# EAGLE library part PCM1800E (library DAC714p)
Single-Ended Analog Input 20-Bit Stereo ADC
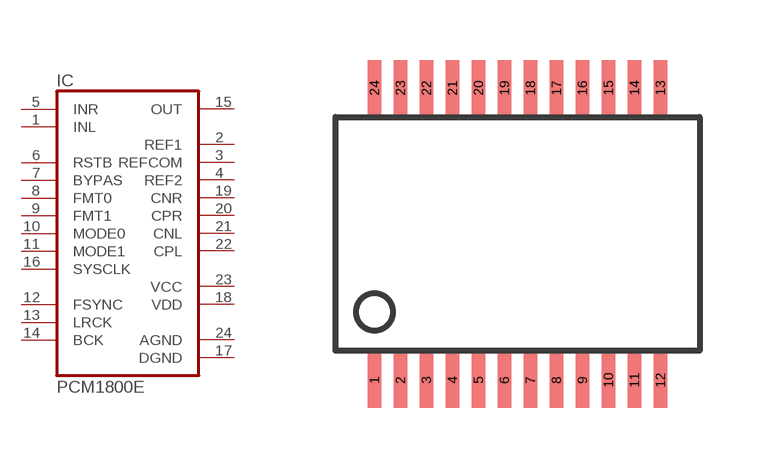
[diagram p107: symbol with the pads of SSOP24BU; footprint SSOP24BU]

Designator prefix IC

## PCM1800E (MF: TEXAS INSTRUMENTS; MPN: PCM1800E; OC_FARNELL: 1648631; OC_NEWARK: 34K8598)  [SSOP24BU]
1  INL  in
2  REF1  pas
3  REFCOM  pas
4  REF2  pas
5  INR  in
6  RSTB  in
7  BYPAS  in
8  FMT0  in
9  FMT1  in
10  MODE0  in
11  MODE1  in
12  FSYNC
13  LRCK
14  BCK
15  OUT  out
16  SYSCLK  in
17  DGND  pwr
18  VDD  pwr
19  CNR  pas
20  CPR  pas
21  CNL  pas
22  CPL  pas
23  VCC  pwr
24  AGND  pwr

## Footprint SSOP24BU (pad centres in mm)
Small Shrink Outline Package
smd 0.348 x 1.397: 1 -3.575,-3.656; 2 -2.925,-3.656; 3 -2.275,-3.656; 4 -1.625,-3.656; 5 -0.975,-3.656; 6 -0.325,-3.656; 7 0.325,-3.656; 8 0.975,-3.656; 9 1.625,-3.656; 10 2.275,-3.656; 11 2.925,-3.656; 12 3.575,-3.656; 13 3.575,3.656; 14 2.925,3.656; 15 2.275,3.656; 16 1.625,3.656; 17 0.975,3.656; 18 0.325,3.656; 19 -0.325,3.656; 20 -0.975,3.656; 21 -1.625,3.656; 22 -2.275,3.656; 23 -2.925,3.656; 24 -3.575,3.656